# EAGLE library part GBA-LINK (library Catskulls_link_port)
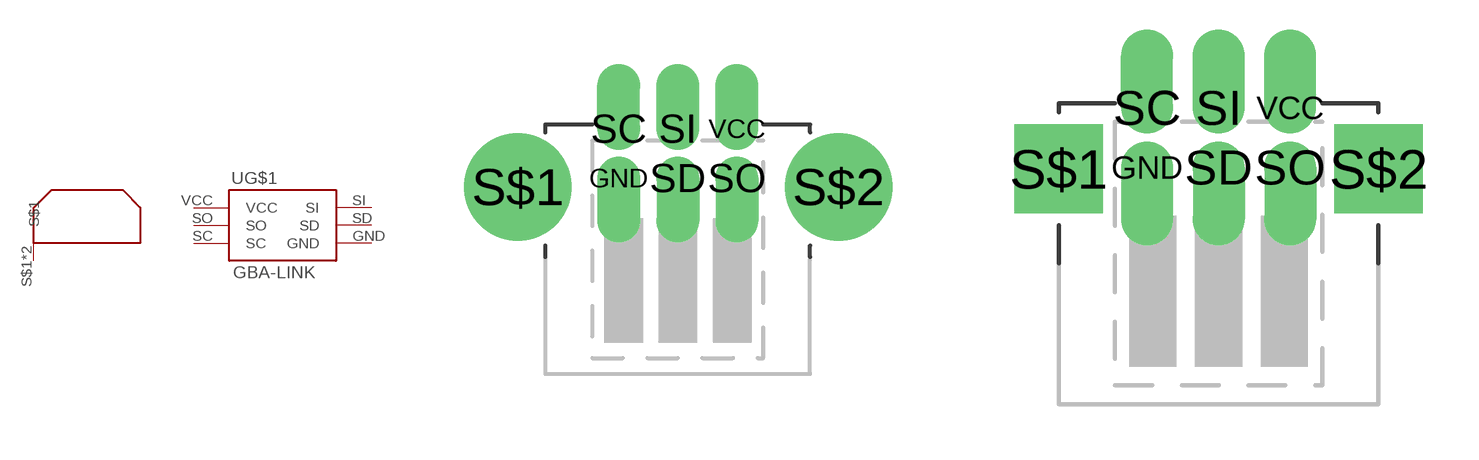
[diagram p0: symbol with the pads of GBA-LINK; footprints GBA-LINK, GBA-LINK-ALT]

Designator prefix -; gates G$1=GBA-LINK G$2=SHIELD

## GBA-LINK  [GBA-LINK]
GND  G$1:GND
S$1  G$2:S$1
S$2  G$2:S$1
SC  G$1:SC
SD  G$1:SD
SI  G$1:SI
SO  G$1:SO
VCC  G$1:VCC

## GBA-LINKA  [GBA-LINK-ALT]
Pads as for GBA-LINK

## Footprint GBA-LINK (pad centres in mm)
drill 0.9 pad 1.27 offset: GND -1.93,-1.61; SC -1.93,0; SD 0,-1.61; SI 0,0; SO 1.93,-1.61; VCC 1.93,0
drill 2.2 pad 3.5: S$1 -5.22,-1.905; S$2 5.25,-1.905

## Footprint GBA-LINK-ALT (pad centres in mm)
drill 0.9 pad 1.27 offset: GND -1.93,-1.61; SC -1.93,0; SD 0,-1.61; SI 0,0; SO 1.93,-1.61; VCC 1.93,0
drill 1.6 pad 2.184 square: S$1 -4.318,-1.651; S$2 4.318,-1.651